# Altium schematic symbol library Scholar Robotic SCH LIB.SchLib: 2 symbols
Pins are listed as number, name and electrical type; pins without a type are passive.

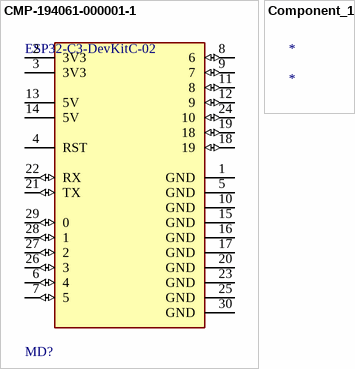
[diagram p0: symbols CMP-194061-000001-1 to Component_1]

## CMP-194061-000001-1
designator MD?, comment ESP32-C3-DevKitC-02
ESP32-C3-WROOM-02 DEV BRD
footprint FP-ESP32-C3-DevKitC-02-MFG
pins: 1 GND (power), 2 3V3 (power), 3 3V3 (power), 4 RST, 5 GND (power), 6 4 (io), 7 5 (io), 8 6 (io), 9 7 (io), 10 GND (power), 11 8 (io), 12 9 (io), 13 5V (power), 14 5V (power), 15 GND (power), 16 GND (power), 17 GND (power), 18 19 (io), 19 18 (io), 20 GND (power), 21 TX (io), 22 RX (io), 23 GND (power), 24 10 (io), 25 GND (power), 26 3 (io), 27 2 (io), 28 1 (io), 29 0 (io), 30 GND (power)

## Component_1
designator *